# EAGLE library part WT11-A (library sf-bluegiga)
Class 1 Bluetooth 2.1 + EDR module, chip antenna
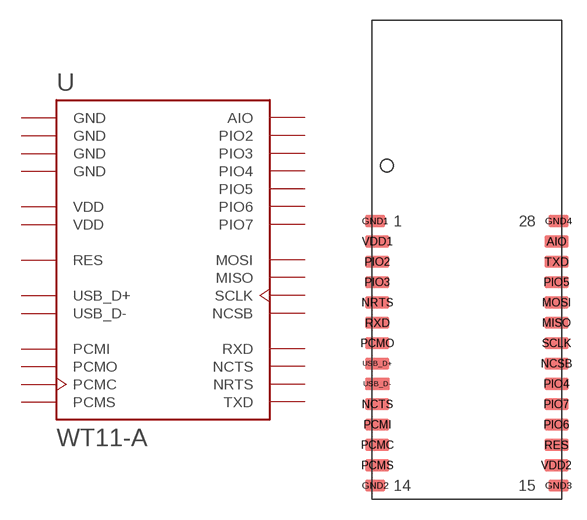
[diagram p1: symbol with the pads of WT11-A; footprint WT11-A]

Designator prefix U

## WT11-A  [WT11-A]
AIO  AIO
GND1  GND  pwr
GND2  GND  pwr
GND3  GND  pwr
GND4  GND  pwr
MISO  MISO  out
MOSI  MOSI  in
NCSB  NCSB  in
NCTS  NCTS  in
NRTS  NRTS  out
PCMC  PCMC
PCMI  PCMI  in
PCMO  PCMO  out
PCMS  PCMS
PIO2  PIO2
PIO3  PIO3
PIO4  PIO4
PIO5  PIO5
PIO6  PIO6
PIO7  PIO7
RES  RES  in
RXD  RXD  in
SCLK  SCLK  in
TXD  TXD  out
USB_D+  USB_D+
USB_D-  USB_D-
VDD1  VDD  pwr
VDD2  VDD  pwr

## Footprint WT11-A (pad centres in mm)
Class 1 Bluetooth 2.1 + EDR module, chip antenna
smd 1.778 x 0.914: AIO 6.6,1.12; MISO 6.6,-4.88; MOSI 6.6,-3.38; NCSB 6.6,-7.88; NCTS -6.6,-10.88; NRTS -6.6,-3.38; PCMC -6.6,-13.88; PCMI -6.6,-12.38; PCMO -6.6,-6.38; PCMS -6.6,-15.38; PIO2 -6.6,-0.38; PIO3 -6.6,-1.88; PIO4 6.6,-9.38; PIO5 6.6,-1.88; PIO6 6.6,-12.38; PIO7 6.6,-10.88; RES 6.6,-13.88; RXD -6.6,-4.88; SCLK 6.6,-6.38; TXD 6.6,-0.38; USB_D+ -6.6,-7.88; USB_D- -6.6,-9.38; VDD1 -6.6,1.12; VDD2 6.6,-15.38
smd 1.478 x 0.914: GND1 -6.75,2.62; GND2 -6.75,-16.88; GND3 6.75,-16.88; GND4 6.75,2.62